# Altium schematic symbol library power_load_switch.SchLib: 26 symbols
Pins are listed as number, name and electrical type; pins without a type are passive.

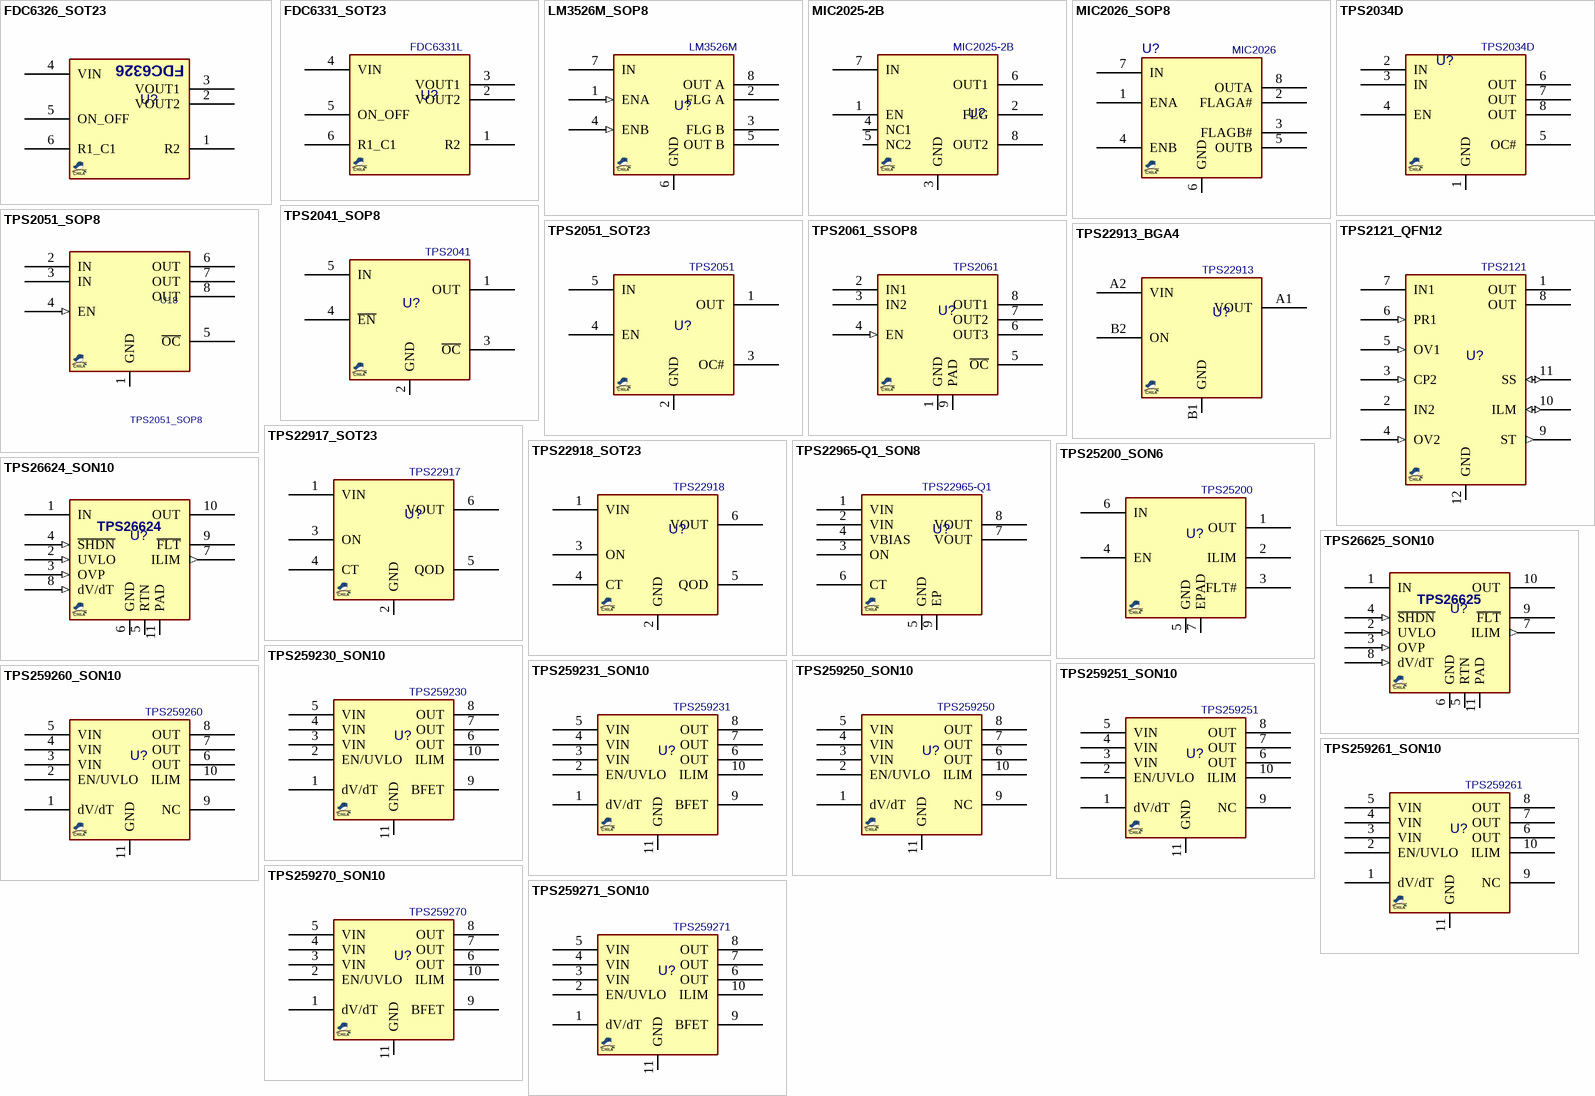
[diagram p0: symbols FDC6326_SOT23 to TPS259271_SON10]

## FDC6326_SOT23
designator U?, comment FDC6326  (value not drawn)
LOAD SW, 3~20VIN, 2.5~8Von, 1.8A, 0.2Vdrop, 0.2Rds; MANF: ON/Fairchild; MANF_P#: FDC6331L; PARAM2: 3~20VIN, 2.5~8Von, 0.2Vdrop; PARAM: 1.8A, 0.2Rds; PRICE: 2500@PAYA; VALUE: FDC6326
footprint SOT23_6 (SOT-23-6, MICRO6, SOT-26, SOT457, SuperSOT6, TSOP-6, HMC313, MO-178AB, MO-193AA, TSOT)
pins: 1 R2, 2 VOUT2, 3 VOUT1, 4 VIN, 5 ON_OFF, 6 R1_C1

## FDC6331_SOT23
designator U?, comment FDC6331L
LOAD SW, 2.5-8V SSOT6; MANF: ON/Fairchild; MANF_P#: FDC6331L; VALUE: FDC6331L
footprint SOT23_6 (SOT-23-6, MICRO6, SOT-26, SOT457, SuperSOT6, TSOP-6, HMC313, MO-178AB, MO-193AA, TSOT)
pins: 1 R2, 2 VOUT2, 3 VOUT1, 4 VIN, 5 ON_OFF, 6 R1_C1

## LM3526M_SOP8
designator U?, comment LM3526M
LOAD SW, Dual Port USB, Over-Current Protection; MANF: TI; MANF_P#: LM3526M-L, LM3526M-H; VALUE: LM3526M
footprint SO_8 (SOP-8, 5x3.9mm body 1.27mm pitch, SOT96-1, M08A, S8, SOIC8, VO8, MS-012AA(JEDEC), R-8, 8S2, VOG8)
pins: 1 ENA (in), 2 FLG A (oc), 3 FLG B (oc), 4 ENB (in), 5 OUT B (power), 6 GND (power), 7 IN (power), 8 OUT A (power)

## MIC2025-2B
designator U?
LOAD SW,; MANF_P#: MIC2525-2B; VALUE: MIC2025-2B
footprint SO_8 (SOP-8, 5x3.9mm body 1.27mm pitch, SOT96-1, M08A, S8, SOIC8, VO8, MS-012AA(JEDEC), R-8, 8S2, VOG8)
pins: 1 EN, 2 FLG, 3 GND, 4 NC1, 5 NC2, 6 OUT1, 7 IN, 8 OUT2

## MIC2026_SOP8
designator U?, comment MIC2026
LOAD SW, DUAL; MANF: Micrel Inc; MANF_P#: MIC2026-1YM TR; PARAM: 0.9A, 140mOhm, 2.7~5.5V, -40~85°C; PRICE: 1=1.14, 25=0.95, 100=0.76, 250=0.57, 500=0.532 (USD); Value: MIC2026
footprint SO_8 (SOP-8, 5x3.9mm body 1.27mm pitch, SOT96-1, M08A, S8, SOIC8, VO8, MS-012AA(JEDEC), R-8, 8S2, VOG8)
pins: 1 ENA, 2 FLAGA#, 3 FLAGB#, 4 ENB, 5 OUTB, 6 GND (power), 7 IN (power), 8 OUTA

## TPS2034D
designator U?
LOAD SW, 3.0A; MANF: Texas Instruments; PARAM: 3A, 36mOhm, 2.7~5.5V, -40~85°C; PRICE: 1=2.94, 25=2.3624, 100=2.1525, 250=1.94252, 500=1.743, 1000=1.47, 2500=1.3965, 5000=1.344, 10000=1.302 (USD); VALUE: TPS2034D
footprint SO_8 (SOP-8, 5x3.9mm body 1.27mm pitch, SOT96-1, M08A, S8, SOIC8, VO8, MS-012AA(JEDEC), R-8, 8S2, VOG8)
pins: 1 GND, 2 IN, 3 IN, 4 EN, 5 OC#, 6 OUT, 7 OUT, 8 OUT

## TPS2041_SOP8
designator U?, comment TPS2041
LOAD SW, CURRENT-LIMITED; MANF: TI; MANF_P#: TPS2041BDR; VALUE: TPS2041
footprint SO_8 (SOP-8, 5x3.9mm body 1.27mm pitch, SOT96-1, M08A, S8, SOIC8, VO8, MS-012AA(JEDEC), R-8, 8S2, VOG8)
pins: 1 OUT, 2 GND, 3 ~{OC}, 4 ~{EN}, 5 IN

## TPS2051_SOP8
designator U18
Power Distribution Switch Current Limited 500mA; MANF: TI; MANF_P#: TPS2051BD; PARAM2: 2.7~5.5V; PARAM: 0.5A, 1A limiter, -40~85oC; PRICE: 1.5$; VALUE: TPS2051
footprint SO_8 (SOP-8, 5x3.9mm body 1.27mm pitch, SOT96-1, M08A, S8, SOIC8, VO8, MS-012AA(JEDEC), R-8, 8S2, VOG8)
pins: 1 GND (power), 2 IN (power), 3 IN (power), 4 EN (in), 5 ~{OC} (oc), 6 OUT (power), 7 OUT (power), 8 OUT (power)

## TPS2051_SOT23
designator U?, comment TPS2051
LOAD SW,; MANF: TI; MANF_P#: TPS2051BDBV; PARAM2: 2.7~5.5V; PARAM: 0.5A, 1A limiter, -40~85oC; PRICE: 1.5$; VALUE: TPS2051
footprint SOT23_5 (SOT-23-5, SOT25, SOT-25, DBV(R-PDSO-G5), TSOT23-5, SC-74A, SOT23-5, S5-T (LINEAR), MO-178AA, MO-193AB(JEDEC), MF05A (NS), TSOP-6(ON), UJ-5 (AD), 0.95mm pitch 3X1.5mm)
pins: 1 OUT, 2 GND (power), 3 OC#, 4 EN, 5 IN

## TPS2061_SSOP8
designator U?, comment TPS2061
LOAD SW, 1A, 2.7~5.5V; MANF: TI; MANF_P#: TPS2061DGN; PARAM: 1A, 2.7~5.5V; VALUE: TPS2061
footprint SOG65_8T_3
pins: 1 GND (power), 2 IN1 (power), 3 IN2 (power), 4 EN (in), 5 ~{OC}, 6 OUT3 (power), 7 OUT2 (power), 8 OUT1 (power), 9 PAD

## TPS2121_QFN12
designator U?, comment TPS2121
LOAD SW, eFuse, 4.5A, 2.8~22V, 56mOhm, power Mux; MANF: TI; MANF_P#: TPS2121RUXR; PARAM2: OverVoltageClamp; PARAM: 4.5A, 5V, 56mOhm, -40~85oC; PRICE: 1.6$; VALUE: TPS2121
footprint QFN50_12_2520_RUX (VQFN-HR RUX0012, pitch: 0.5mm, 0.7mm, 2x2.5x1mm)
pins: 1 OUT (power), 2 IN2 (power), 3 CP2 (in), 4 OV2 (in), 5 OV1 (in), 6 PR1 (in), 7 IN1 (power), 8 OUT (power), 9 ST (out), 10 ILM (io), 11 SS (io), 12 GND (power)

## TPS22913_BGA4
designator U?, comment TPS22913
LOAD SW, 2A, 1.4~5.5v, 60mOhm, 4DSBGA; MANF: TI; MANF_P#: TPS22913BYZVR; PARAM: 2A, 1.4~5.5v, 60mOhm; PRICE: 0.89$; VALUE: TPS22913
footprint BGA50_4 (BGA, pitch; 0.5mm, 4-Ball, 0.9x0.9mm)
pins: A1 VOUT (power), A2 VIN (power), B1 GND, B2 ON

## TPS22917_SOT23
designator U?, comment TPS22917
LOAD SW, 2A, 1~5.5v, 80mOhm, SOT23; MANF: TI; MANF_P#: TPS22917DBV; PARAM: 2A, 1~5.5v, 80mOhm, -40~105oC; PRICE: 0.5$; VALUE: TPS22917
footprint SOT23_6 (SOT-23-6, DDC, MICRO6, SOT-26, SOT457, SuperSOT6, TSOP-6, HMC313, MO-178AB, MO-193AA, TSOT)
pins: 1 VIN, 2 GND, 3 ON, 4 CT, 5 QOD, 6 VOUT

## TPS22918_SOT23
designator U?, comment TPS22918
LOAD SW, 2A, 1~5.5v, 52mOhm, SOT23; MANF: TI; MANF_P#: TPS22918DBV; PARAM: 2A, 1~5.5v, 52mOhm, -40~105oC; PRICE: 0.5$; VALUE: TPS22918
footprint SOT23_6 (SOT-23-6, DDC, MICRO6, SOT-26, SOT457, SuperSOT6, TSOP-6, HMC313, MO-178AB, MO-193AA, TSOT)
pins: 1 VIN, 2 GND, 3 ON, 4 CT, 5 QOD, 6 VOUT

## TPS22965-Q1_SON8
designator U?, comment TPS22965-Q1
LOAD SW, 6A, 5.7v, 16mOhm; MANF: TI; MANF_P#: TPS22965QWDSGRQ1; PARAM2: 0.8~5.7V; PRICE: 1$; VALUE: TPS22965-Q1
footprint SON50_8T_2X2 (DSG PWSON (TI), Pitch: 0.5mm 2x2x0.8mm with Thermal pad)
pins: 1 VIN (power), 2 VIN (power), 3 ON (power), 4 VBIAS, 5 GND, 6 CT, 7 VOUT (power), 8 VOUT (power), 9 EP

## TPS25200_SON6
designator U?, comment TPS25200
LOAD SW, 5V eFuse, 2.5A, 2.5~6.5V, 60mOhm; MANF: TI; MANF_P#: TPS25200DRV; PARAM: 2.5A, 2.5~6.5V, 60mOhm; PRICE: 1.3$; VALUE: TPS25200
footprint SON65_6T_2X2 (DRV PWSON DFN6 Pitch: 0.65mm 2x2x1.1mm)
pins: 1 OUT (power), 2 ILIM, 3 FLT# (power), 4 EN, 5 GND (power), 6 IN (power), 7 EPAD (power)

## TPS26624_SON10
designator U?, comment TPS26624  (value not drawn)
LOAD SW, 4.5~60V eFuse, 0.8A, 478mOhm, OVP cut-off & Revp, OVL Latch off; MANF: TI; MANF_P#: TPS26624DRC; PARAM2: 4.5~60V, OVP cut-off, Revp; PARAM: 0.8A, 478mOhm, OVL Latch off; PRICE: 3$; VALUE: TPS26624
footprint SON50_10T_3030 (DRC SON(TI), 10 TDFN (MAXIM), 3X3mm, Pitch: 0.5mm with thermal pad)
pins: 1 IN (power), 2 UVLO (in), 3 OVP (in), 4 ~{SHDN} (in), 5 RTN, 6 GND (power), 7 ILIM (out), 8 dV/dT (in), 9 ~{FLT} (oc), 10 OUT (power), 11 PAD (power)

## TPS26625_SON10
designator U?, comment TPS26625  (value not drawn)
LOAD SW, 4.5~60V eFuse, 0.8A, 478mOhm, OVP cut-off & Revp, OVL autoretry; MANF: TI; MANF_P#: TPS26625DRC; PARAM2: 4.5~60V, OVP cut-off, Revp; PARAM: 0.8A, 478mOhm, OVL autoretry; PRICE: 3$; VALUE: TPS26625
footprint SON50_10T_3030 (DRC SON(TI), 10 TDFN (MAXIM), 3X3mm, Pitch: 0.5mm with thermal pad)
pins: 1 IN (power), 2 UVLO (in), 3 OVP (in), 4 ~{SHDN} (in), 5 RTN, 6 GND (power), 7 ILIM (out), 8 dV/dT (in), 9 ~{FLT} (oc), 10 OUT (power), 11 PAD (power)

## TPS259230_SON10
designator U?, comment TPS259230
LOAD SW, 5V eFuse, 5A, 4.5~5.5V, 28mOhm +BFET; MANF: TI; MANF_P#: TPS259230DRCR, TPS259230DRCT; PARAM2: +BFET +OverVoltageClamp +AutoRetry; PARAM: 5A, 5V, 28mOhm, -40~85oC; PRICE: 1.6$; VALUE: TPS259230
footprint SON50_10T_3030 (DRC SON(TI), 10 TDFN (MAXIM), 3X3mm, Pitch: 0.5mm with thermal pad)
pins: 1 dV/dT, 2 EN/UVLO, 3 VIN, 4 VIN, 5 VIN, 6 OUT, 7 OUT, 8 OUT, 9 BFET, 10 ILIM, 11 GND (power)

## TPS259231_SON10
designator U?, comment TPS259231
LOAD SW, 5V eFuse, 5A, 4.5~5.5V, 28mOhm +BFET; MANF: TI; MANF_P#: TPS259231DRCR, TPS259231DRCT; PARAM2: +BFET +OverVoltageClamp; PARAM: 5A, 5V, 28mOhm, -40~85oC; PRICE: 1.6$; VALUE: TPS259231
footprint SON50_10T_3030 (DRC SON(TI), 10 TDFN (MAXIM), 3X3mm, Pitch: 0.5mm with thermal pad)
pins: 1 dV/dT, 2 EN/UVLO, 3 VIN, 4 VIN, 5 VIN, 6 OUT, 7 OUT, 8 OUT, 9 BFET, 10 ILIM, 11 GND (power)

## TPS259250_SON10
designator U?, comment TPS259250
LOAD SW, 5V eFuse, 5A, 4.5~5.5V, 30mOhm; MANF: TI; MANF_P#: TPS259250DRCR, TPS259250DRCT; PARAM: 5A, 5V, 30mOhm, -40~85oC; PRICE: 1.6$; VALUE: TPS259250
footprint SON50_10T_3030 (DRC SON(TI), 10 TDFN (MAXIM), 3X3mm, Pitch: 0.5mm with thermal pad)
pins: 1 dV/dT, 2 EN/UVLO, 3 VIN, 4 VIN, 5 VIN, 6 OUT, 7 OUT, 8 OUT, 9 NC, 10 ILIM, 11 GND (power)

## TPS259251_SON10
designator U?, comment TPS259251
LOAD SW, 5V eFuse, 5A, 4.5~5.5V, 30mOhm; MANF: TI; MANF_P#: TPS259251DRCR, TPS259251DRCT; PARAM: 5A, 5V, 30mOhm, -40~85oC; PRICE: 1.6$; VALUE: TPS259251
footprint SON50_10T_3030 (DRC SON(TI), 10 TDFN (MAXIM), 3X3mm, Pitch: 0.5mm with thermal pad)
pins: 1 dV/dT, 2 EN/UVLO, 3 VIN, 4 VIN, 5 VIN, 6 OUT, 7 OUT, 8 OUT, 9 NC, 10 ILIM, 11 GND (power)

## TPS259260_SON10
designator U?, comment TPS259260
LOAD SW, 12V eFuse, 5A, 4.3~15V, 30mOhm; MANF: TI; MANF_P#: TPS259260DRCR, TPS259260DRCT; PARAM: 5A, 12V, 30mOhm, -40~85oC; PRICE: 1.6$; VALUE: TPS259260
footprint SON50_10T_3030 (DRC SON(TI), 10 TDFN (MAXIM), 3X3mm, Pitch: 0.5mm with thermal pad)
pins: 1 dV/dT, 2 EN/UVLO, 3 VIN, 4 VIN, 5 VIN, 6 OUT, 7 OUT, 8 OUT, 9 NC, 10 ILIM, 11 GND (power)

## TPS259261_SON10
designator U?, comment TPS259261
LOAD SW, 12V eFuse, 5A, 4.3~15V, 30mOhm; MANF: TI; MANF_P#: TPS259261DRCR, TPS259261DRCT; PARAM: 5A, 12V, 30mOhm, -40~85oC; PRICE: 1.6$; VALUE: TPS259261
footprint SON50_10T_3030 (DRC SON(TI), 10 TDFN (MAXIM), 3X3mm, Pitch: 0.5mm with thermal pad)
pins: 1 dV/dT, 2 EN/UVLO, 3 VIN, 4 VIN, 5 VIN, 6 OUT, 7 OUT, 8 OUT, 9 NC, 10 ILIM, 11 GND (power)

## TPS259270_SON10
designator U?, comment TPS259270
LOAD SW, 5V eFuse, 5A, 4.5~18V, 28mOhm +BFET; MANF: TI; MANF_P#: TPS259270DRCR, TPS259270DRCT; PARAM: 5A, 5V, 28mOhm, -40~85oC; PRICE: 1.6$; VALUE: TPS259270
footprint SON50_10T_3030 (DRC SON(TI), 10 TDFN (MAXIM), 3X3mm, Pitch: 0.5mm with thermal pad)
pins: 1 dV/dT, 2 EN/UVLO, 3 VIN, 4 VIN, 5 VIN, 6 OUT, 7 OUT, 8 OUT, 9 BFET, 10 ILIM, 11 GND (power)

## TPS259271_SON10
designator U?, comment TPS259271
LOAD SW, 5V eFuse, 5A, 4.5~18V, 28mOhm +BFET; MANF: TI; MANF_P#: TPS259271DRCR, TPS259271DRCT; PARAM: 5A, 5V, 28mOhm, -40~85oC; PRICE: 1.6$; VALUE: TPS259271
footprint SON50_10T_3030 (DRC SON(TI), 10 TDFN (MAXIM), 3X3mm, Pitch: 0.5mm with thermal pad)
pins: 1 dV/dT, 2 EN/UVLO, 3 VIN, 4 VIN, 5 VIN, 6 OUT, 7 OUT, 8 OUT, 9 BFET, 10 ILIM, 11 GND (power)